# Altium footprint library misc.PcbLib: 26 footprints (part 2 of 2)
Each footprint in its own frame and in the unit in brackets; x right, y up, seen from the top. Pads: shape width x height; smd on the part's side, far side on the other; paste and mask are expansions set on the pad; w line width, h text height; cw(c..) or ccw(c..) is an arc to the next point about the centre after c.
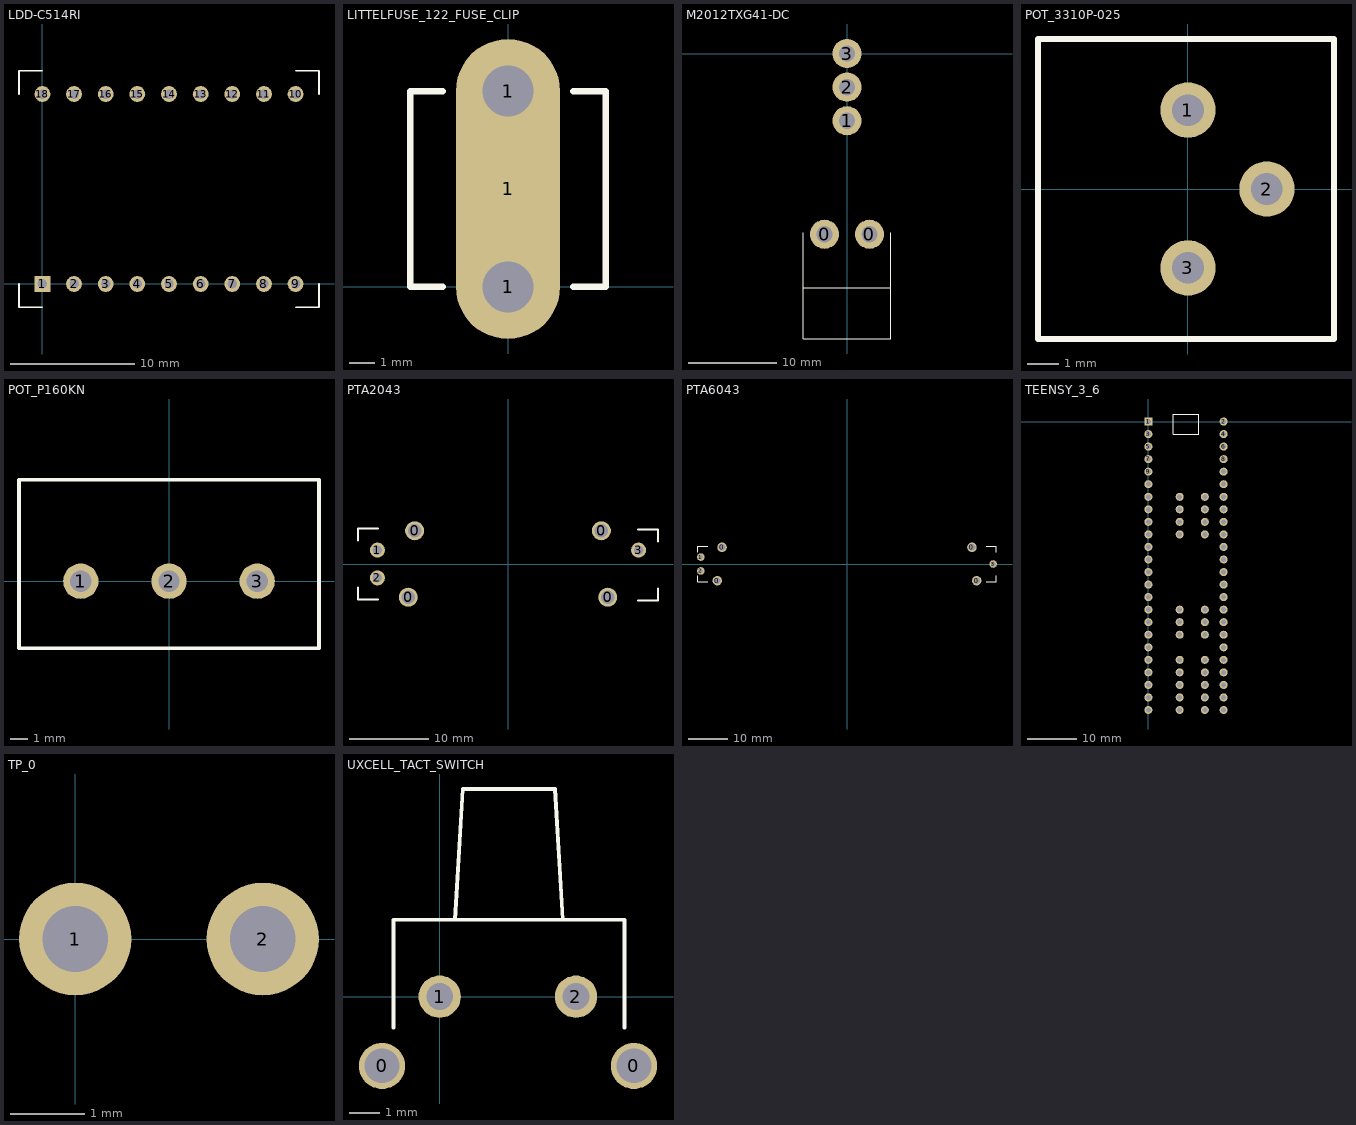
[diagram p1: the footprints below, top view; thin cyan lines are the x and y axes]

## LDD-C514RI [mil]
pads (18):
  rect 50x50 hole 30: 1(0,0)
  round 50 hole 30: 2(100,0) 3(200,0) 4(300,0) 5(400,0) 6(500,0) 7(600,0) 8(700,0) 9(800,0) 10(800,600) 11(700,600) 12(600,600) 13(500,600) 14(400,600) 15(300,600) 16(200,600) 17(100,600) 18(0,600)
Top Overlay:
  lines w5: -74,0 -74,-74 0,-74 ; -74,600 -74,674 0,674 ; 800,-74 874,-74 874,0 ; 800,674 874,674 874,600

## LITTELFUSE_122_FUSE_CLIP [mil] "Cartridge Fuse Clip, 1/4\" diameter, 01220093Z"
pads (3):
  round 160 hole 78: 1(0,0) 1(0,300)
  rect 160x300 all layers, no hole: 1(0,150)
Top Overlay:
  lines w10: -100,0 -150,0 -150,300 -100,300 ; 100,0 150,0 150,300 100,300

## M2012TXG41-DC [mil] "SPDT, right angle, thru-hole"
pads (5):
  round 130 hole 73: 0(-100.39,-807.09) 0(100.39,-807.09) 1(0,-300) 2(0,-150) 3(0,0)
Top Overlay:
  lines w5: -195,-1045 195,-1045 ; -195,-800 -195,-1275 195,-1275 195,-800
3D body "M2012TXW41-DA.stp": height 683.02, standoff -126.73, extent -182.5,-1390.65 182.5,13.85

## POT_3310P-025 [mil] "Bourns 3310P-025 Series Potentiometers"
pads (3):
  round 70 hole 40: 1(0,100) 2(100,0) 3(0,-100)
Top Overlay:
  lines w7.87: -190,-190 185,-190 185,190 -190,190 -190,-190
3D body "3310p-025.stp": height 382.5, standoff -236, extent -190,-187.5 185,187.5

## POT_P160KN [mm] "Potentiometer, P160KN"
pads (3):
  round 2 hole 1.2: 1(-5,0) 2(0,0) 3(5,0)
Top Overlay:
  lines w0.2: -8.5,-3.8 -8.5,5.75 8.5,5.75 8.5,-3.8 -8.5,-3.8

## PTA2043 [mm] "PTA2043 Single Gang Potentiometer"
pads (7):
  round 2.4 hole 1.7: 0(-12.6,-4.2) 0(-11.8,4.2) 0(11.8,4.2) 0(12.6,-4.2)
  round 1.9 hole 1.194: 1(-16.5,1.75) 2(-16.5,-1.75) 3(16.5,1.75)
Top Overlay:
  lines w0.254: -18.958,-3 -18.958,-4.5 -16.458,-4.5 ; -18.958,3 -18.958,4.5 -16.458,4.5 ; 16.458,-4.627 18.958,-4.627 18.958,-3.127 ; 16.458,4.373 18.958,4.373 18.958,2.873

## PTA6043 [mm] "PTA6043 Single Gang Potentiometer"
pads (7):
  round 2.4 hole 1.7: 0(-32.6,-4.2) 0(-31.4,4.2) 0(31.4,4.2) 0(32.6,-4.2)
  round 1.9 hole 1.194: 1(-36.75,1.75) 2(-36.75,-1.75) 3(36.75,0)
Top Overlay:
  lines w0.254: -37.5,-3 -37.5,-4.5 -35,-4.5 ; -37.5,3 -37.5,4.5 -35,4.5 ; 35,-4.5 37.5,-4.5 37.5,-3 ; 35,4.5 37.5,4.5 37.5,3

## TEENSY_3_6 [mil]
pads (72):
  rect 64x64 hole 40: 1(0,0)
  round 64 hole 40: 2(600,0) 3(0,-100) 4(600,-100) 5(0,-200) 6(600,-200) 7(0,-300) 8(600,-300) 9(0,-400) 10(600,-400) 11(0,-500) 12(600,-500) 13(0,-600) 14(600,-600) 15(0,-700) 16(600,-700) 17(0,-800) 18(600,-800) 19(0,-900) 20(600,-900) 21(0,-1000) 22(600,-1000) 23(0,-1100) 24(600,-1100) 25(0,-1200) 26(600,-1200) 27(0,-1300) 28(600,-1300) 29(0,-1400) 30(600,-1400) 31(0,-1500) 32(600,-1500) 33(0,-1600) 34(600,-1600) 35(0,-1700) 36(600,-1700) 37(0,-1800) 38(600,-1800) 39(0,-1900) 40(600,-1900) 41(0,-2000) 42(600,-2000) 43(0,-2100) 44(600,-2100) 45(0,-2200) 46(600,-2200) 47(0,-2300) 48(600,-2300) 49(250,-1500) 50(250,-1600) 51(250,-1700) 52(250,-1900) 53(250,-2000) 54(250,-2100) 55(250,-2200) 56(250,-2300) 57(450,-2300) 58(450,-2200) 59(450,-2100) 60(450,-2000) 61(450,-1900) 62(450,-1700) 63(450,-1600) 64(450,-1500) 65(250,-600) 66(250,-700) 67(250,-800) 68(250,-900) 69(450,-900) 70(450,-800) 71(450,-700) 72(450,-600)
Top Overlay:
  lines w5: 200,-100 400,-100 400,60 200,60 200,-100
3D body "Teensy 3.5 - 3.6.step": height 609.67, standoff 92.45, extent -50,-2350 650,105.1
3D body "24_pos_pin_header.SLDPRT": height 335, standoff -126, extent -50,-2360 50,60
3D body "24_pos_pin_header.SLDPRT": height 335, standoff -126, extent 550,-2360 650,60

## TP_0 [mil] "Test Point jumper link, 0.1\" spacing"
pads (2):
  round 60 hole 35: 1(0,0) 2(100,0)
3D body "test_point.SLDPRT": height 114.15, standoff -103.49, extent -11.8,-11.8 111.82,11.82

## UXCELL_TACT_SWITCH [mil] "Right angle tactile switch"
pads (4):
  round 60 hole 45: 0(-75,-90) 0(252.53,-90)
  round 55 hole 35: 1(0,0) 2(177.17,0)
Top Overlay:
  lines w5: -60,-40 -60,100 240,100 240,-40 ; 20,100 30,270 150,270 160,100
3D body "Uxcell_tact_switch.SLDPRT": height 279.53, standoff -129.92, extent -57.09,-156.5 238.19,272.64